# Altium schematic symbol library Shelestov_Capacitors.SchLib: 24 symbols
Pins are listed as number, name and electrical type; pins without a type are passive.

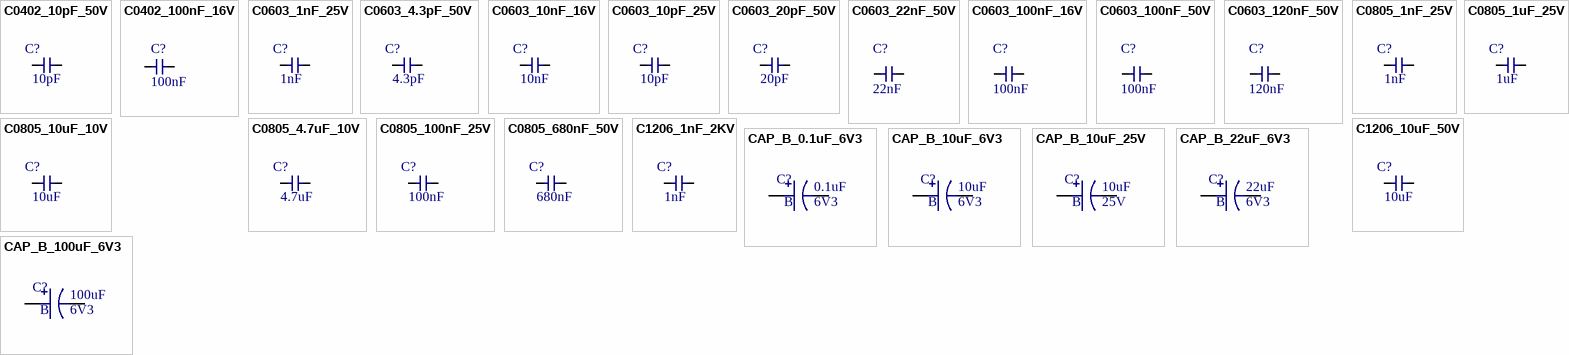
[diagram p0: symbols C0402_10pF_50V to CAP_B_100uF_6V3]

## C0402_10pF_50V
designator C?, comment 10pF
Ceramic capacitor; Voltage: 50V; Capacity: 10pF; Size: 0402; PriceRCSUAH: 0,3; RCS: https://www.rcscomponents.kiev.ua/product/10pf-50v-1-cog-0402-vj0402a100fxacw1bc-vishay_162340.html; Value: 10pF
footprint C0402_NOSILK
footprint C0402
pins: 1, 2

## C0402_100nF_16V
designator C?, comment 100nF
Ceramic capacitor; Voltage: 16V; MF: YAGEO; MP: CC0402KRX7R7BB104; Capacity: 100nF; Size: 0402; PriceRCSUAH: 0,2; RCS: https://www.rcscomponents.kiev.ua/product/100nf-16v-10-x7r-0402-cl05b104ko5nnnc-samsung_103686.html; LCSC: C60474; PriceLCSC: 0.0013; ComponentLink1Description: URLLCSC; ComponentLink1URL: https://lcsc.com/product-detail/Multilayer-Ceramic-Capacitors-MLCC-SMD-SMT_YAGEO-CC0402KRX7R7BB104_C60474.html; Value: 100nF
footprint C0402_NOSILK
footprint C0402
pins: 1, 2

## C0603_1nF_25V
designator C?, comment 1nF
Ceramic capacitor; Voltage: 25V; Capacity: 1nF; Size: 0603; PriceKosmodromUAH: 0,75; Kosmodrom: http://www.kosmodrom.com.ua/el.php?name=CP0603100050V10; Value: 1nF
footprint C0603
footprint C0603_NOSILK
pins: 1, 2

## C0603_4.3pF_50V
designator C?, comment 4.3pF
Ceramic capacitor; Voltage: 25V; Capacity: 4.3pF; Size: 0603; PriceKosmodromUAH: 0,25; Kosmodrom: http://www.kosmodrom.com.ua/el.php?name=CP06034.350V0.25; Value: 4.3pF
footprint C0603
footprint C0603_NOSILK
pins: 1, 2

## C0603_10nF_16V
designator C?, comment 10nF
Ceramic capacitor; Voltage: 16V; Capacity: 10nF; Size: 0603; PriceKosmodromUAH: 0,25; Kosmodrom: http://www.kosmodrom.com.ua/el.php?name=CP06031050V10; Value: 10nF
footprint C0603
footprint C0603_NOSILK
pins: 1, 2

## C0603_10pF_25V
designator C?, comment 10pF
Ceramic capacitor; Voltage: 25V; Capacity: 10pF; Size: 0603; PriceRCSUAH: 0,45; RCS: https://www.rcscomponents.kiev.ua/product/10pf-50v-np0-0-25pf-0603-4k-reel-c0603n100c500nt-hitano-kondensator-keramicheskij-smd_3301.html; Value: 10pF
footprint C0603
footprint C0603_NOSILK
pins: 1, 2

## C0603_20pF_50V
designator C?, comment 20pF
Ceramic capacitor; Voltage: 25V; Capacity: 20pF; Size: 0603; PriceKosmodromUAH: 0,25; Kosmodrom: http://www.kosmodrom.com.ua/el.php?name=CP06032050V5; Value: 20pF
footprint C0603
footprint C0603_NOSILK
pins: 1, 2

## C0603_22nF_50V
designator C?, comment 22nF
Ceramic capacitor; Voltage: 50V; MF: Samsung Electro-Mechanics; MP: CL05B223KB5NNNC; Capacity: 22nF; Size: 0603; LCSC: C337699; PriceLCSC: 0.0056; ComponentLink1Description: URLLCSC; ComponentLink1URL: https://lcsc.com/product-detail/Multilayer-Ceramic-Capacitors-MLCC-SMD-SMT_YAGEO-CC0603KRX7R7BB104_C108079.html; Value: 22nF
footprint C0603
footprint C0603_NOSILK
pins: 1, 2

## C0603_100nF_16V
designator C?, comment 100nF
Ceramic capacitor; Voltage: 16V; MF: YAGEO; MP: CC0603KRX7R7BB104; Capacity: 100nF; Size: 0603; PriceKosmodromUAH: 1; Kosmodrom: http://www.kosmodrom.com.ua/el.php?name=CP06030.125V8020; LCSC: C108079; PriceLCSC: 0.0049; ComponentLink1Description: URLLCSC; ComponentLink1URL: https://lcsc.com/product-detail/Multilayer-Ceramic-Capacitors-MLCC-SMD-SMT_YAGEO-CC0603KRX7R7BB104_C108079.html; Value: 100nF
footprint C0603
footprint C0603_NOSILK
pins: 1, 2

## C0603_100nF_50V
designator C?, comment 100nF
Ceramic capacitor; Voltage: 50V; MF: Samsung Electro-Mechanics; MP: CL10B104KB8NNNC; Capacity: 100nF; Size: 0603; LCSC: C1591; PriceLCSC: 0.005; ComponentLink1Description: URLLCSC; ComponentLink1URL: https://lcsc.com/product-detail/Multilayer-Ceramic-Capacitors-MLCC-SMD-SMT_YAGEO-CC0603KRX7R7BB104_C108079.html; Value: 100nF
footprint C0603
footprint C0603_NOSILK
pins: 1, 2

## C0603_120nF_50V
designator C?, comment 120nF
Ceramic capacitor; Voltage: 50V; MF: Samsung Electro-Mechanics; MP: CL10B124KO8NNNC; Capacity: 120nF; Size: 0603; LCSC: C29901; PriceLCSC: 0.0137; ComponentLink1Description: URLLCSC; ComponentLink1URL: https://lcsc.com/product-detail/Multilayer-Ceramic-Capacitors-MLCC-SMD-SMT_Samsung-Electro-Mechanics-CL10B124KO8NNNC_C29901.html; Value: 120nF
footprint C0603
footprint C0603_NOSILK
pins: 1, 2

## C0805_1nF_25V
designator C?, comment 1nF
Ceramic capacitor; Voltage: 25V; Capacity: 1nF; Size: 0805; RCS: https://www.rcscomponents.kiev.ua/product/1nf-50v-np0-5-0805-4k-reel-c0805n102j500nt-hitano-kondensator-keramicheskij-smd_15246.html; Value: 1nF
footprint C0805
pins: 1, 2

## C0805_1uF_25V
designator C?, comment 1uF
Ceramic capacitor; Voltage: 25V; Capacity: 1uF; Size: 0805; PriceKosmodromUAH: 1; Kosmodrom: http://www.kosmodrom.com.ua/el.php?name=CP0805125V10; Value: 1uF
footprint C0805
pins: 1, 2

## C0805_4.7uF_10V
designator C?, comment 4.7uF
Ceramic capacitor; Voltage: 10V; Capacity: 4.7uF; Size: 0805; LCSC: https://lcsc.com/product-detail/Multilayer-Ceramic-Capacitors-MLCC-SMD-SMT_Samsung-Electro-Mechanics-CL21B475KPFNNNE_C87998.html; Value: 4.7uF
footprint C0805
pins: 1, 2

## C0805_10uF_10V
designator C?, comment 10uF
Ceramic capacitor; Voltage: 10V; Capacity: 10uF; Size: 0805; Value: 10uF
footprint C0805
pins: 1, 2

## C0805_100nF_25V
designator C?, comment 100nF
Ceramic capacitor; Voltage: 25V; Capacity: 100nF; Size: 0805; PriceRCSUAH: 1,1; RCS: https://www.rcscomponents.kiev.ua/product/100nf-25v-x7r-10-0805-4k-reel-c0805b104k250nt-hitano-kondensator-keramicheskij-smd_2259.html; Value: 100nF
footprint C0805
pins: 1, 2

## C0805_680nF_50V
designator C?, comment 680nF
Ceramic capacitor; Voltage: 50V; MF: YAGEO; MP: CC0805KKX7R9BB684; Capacity: 680nF; Size: 0805; LCSC: C107133; PriceLCSC: 0.0289; ComponentLink1Description: URLLCSC; ComponentLink1URL: https://lcsc.com/product-detail/Multilayer-Ceramic-Capacitors-MLCC-SMD-SMT_680nF-684-10-50V_C107133.html; Value: 680nF
footprint C0805
footprint C0805_NOSILK
pins: 1, 2

## C1206_1nF_2KV
designator C?, comment 1nF
Ceramic capacitor; Voltage: 2KV; Capacity: 1nF; Size: 1206; PriceRCSUAH: 1,7; RCS: https://www.rcscomponents.kiev.ua/product/1nf-2000v-x7r-10-1206-3k-reel-1206b102k202n3-hitano-kondensatory-keramicheskie-smd_11455.html; Value: 1nF
footprint C1206
pins: 1, 2

## C1206_10uF_50V
designator C?, comment 10uF
Ceramic capacitor; Voltage: 50V; MP: CL31A106KBHNNNE; MF: Samsung Electro-Mechanics; Temperature Coefficient: X5R; Capacity: 10uF; Size: 1206; RCS: https://www.rcscomponents.kiev.ua/product/1nf-2000v-x7r-10-1206-3k-reel-1206b102k202n3-hitano-kondensatory-keramicheskie-smd_11455.html; LCSC: C13585; PriceLCSC: 0.0589; ComponentLink1Description: URLLCSC; ComponentLink1URL: https://lcsc.com/product-detail/Multilayer-Ceramic-Capacitors-MLCC-SMD-SMT_Samsung-Electro-Mechanics-CL31A106KBHNNNE_C13585.html; Value: 10uF
footprint C1206
footprint C1206_NOSILK
pins: 1, 2

## CAP_B_0.1uF_6V3
designator C?, comment Voltage: 6V3  Size: B  (hidden comment: 0.1uF)
Tantalum capacitor; Capacity: 0.1uF; Value: 0.1uF
footprint CAP_SIZE_B
footprint CAP_SIZE_C
pins: 1, 2

## CAP_B_10uF_6V3
designator C?, comment Voltage: 6V3  Size: B  (hidden comment: 10uF)
Tantalum capacitor; Capacity: 10uF; PriceRCSUAH: 4; RCS: https://www.rcscomponents.kiev.ua/product/10uf-10v-size-b-10-tajb106k010r-avx-kondensator-tantalovyj-smd_14318.html; Value: 10uF
footprint CAP_SIZE_B
footprint CAP_SIZE_C
pins: 1, 2

## CAP_B_10uF_25V
designator C?, comment Voltage: 25V  Size: B  (hidden comment: 10uF)
Tantalum capacitor; Capacity: 10uF; PriceKosmodromUAH: 6,75; PriceRCSUAH: 5,5; Kosmodrom: http://www.kosmodrom.com.ua/el.php?name=TR3B106K025C0450; RCS: https://www.rcscomponents.kiev.ua/product/10uf-25v-size-b-10-tajb106k025rnj-avx-kondensator-tantalovyj-smd_39635.html; Value: 10uF
footprint CAP_SIZE_B
footprint CAP_SIZE_C
pins: 1, 2

## CAP_B_22uF_6V3
designator C?, comment Voltage: 6V3  Size: B  (hidden comment: 22uF)
Tantalum capacitor; Capacity: 22uF; PriceRCSUAH: 4,5; RCS: https://www.rcscomponents.kiev.ua/product/22uf-6-3v-size-b-20-tcscs0j226mbar-samsung-kondensator-tantalovyj-smd_6588.html; Value: 22uF
footprint CAP_SIZE_B
footprint CAP_SIZE_C
pins: 1, 2

## CAP_B_100uF_6V3
designator C?, comment Voltage: 6V3  Size: B  (hidden comment: 100uF)
Tantalum capacitor; Capacity: 100uF; PriceRCSUAH: 5,5; RCS: https://www.rcscomponents.kiev.ua/product/100uf-6-3v-size-b-10-tajb107k006rnj-avx-kondensator-tantalovyj-smd_39633.html; Value: 100uF
footprint CAP_SIZE_B
footprint CAP_SIZE_C
pins: 1, 2